# Altium schematic symbol library SD Card.SchLib: 2 symbols
Pins are listed as number, name and electrical type; pins without a type are passive.

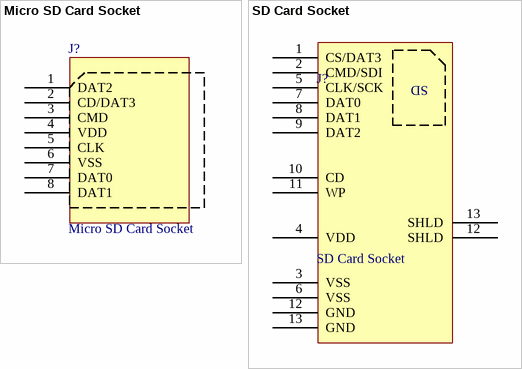
[diagram p0: symbols Micro SD Card Socket to SD Card Socket]

## Micro SD Card Socket
designator J?
Micro SD 3M 2908-05WB-MG; Vendor: Mouser; Notes: Molex 500873-008   3M 2908-05WB-MG; Manufacturer: 3M; Part No.: 2908-05WB-MG; Price Est.: $1.19
footprint Micro SD (MicroSD Socket (Molex 500873-080X) (3M 2908-05WB-MG))
pins: 1 DAT2, 2 CD/DAT3, 3 CMD, 4 VDD, 5 CLK, 6 VSS, 7 DAT0, 8 DAT1

## SD Card Socket
designator J?
SD 4UCON 00112; Manufacturer: 4UConnector; Part No.: 00112; Vendor: Mouser; Notes: top unlabled pin on datasheet is gnd
pins: 1 CS/DAT3, 2 CMD/SDI, 3 VSS, 4 VDD, 5 CLK/SCK, 6 VSS, 7 DAT0, 8 DAT1, 9 DAT2, 10 CD, 11 WP, 12 GND, 12 SHLD, 13 GND, 13 SHLD
text: SD